# Altium integrated library Xilinx Virtex-6 FPGA.IntLib: 462 symbols (part 3 of 4)
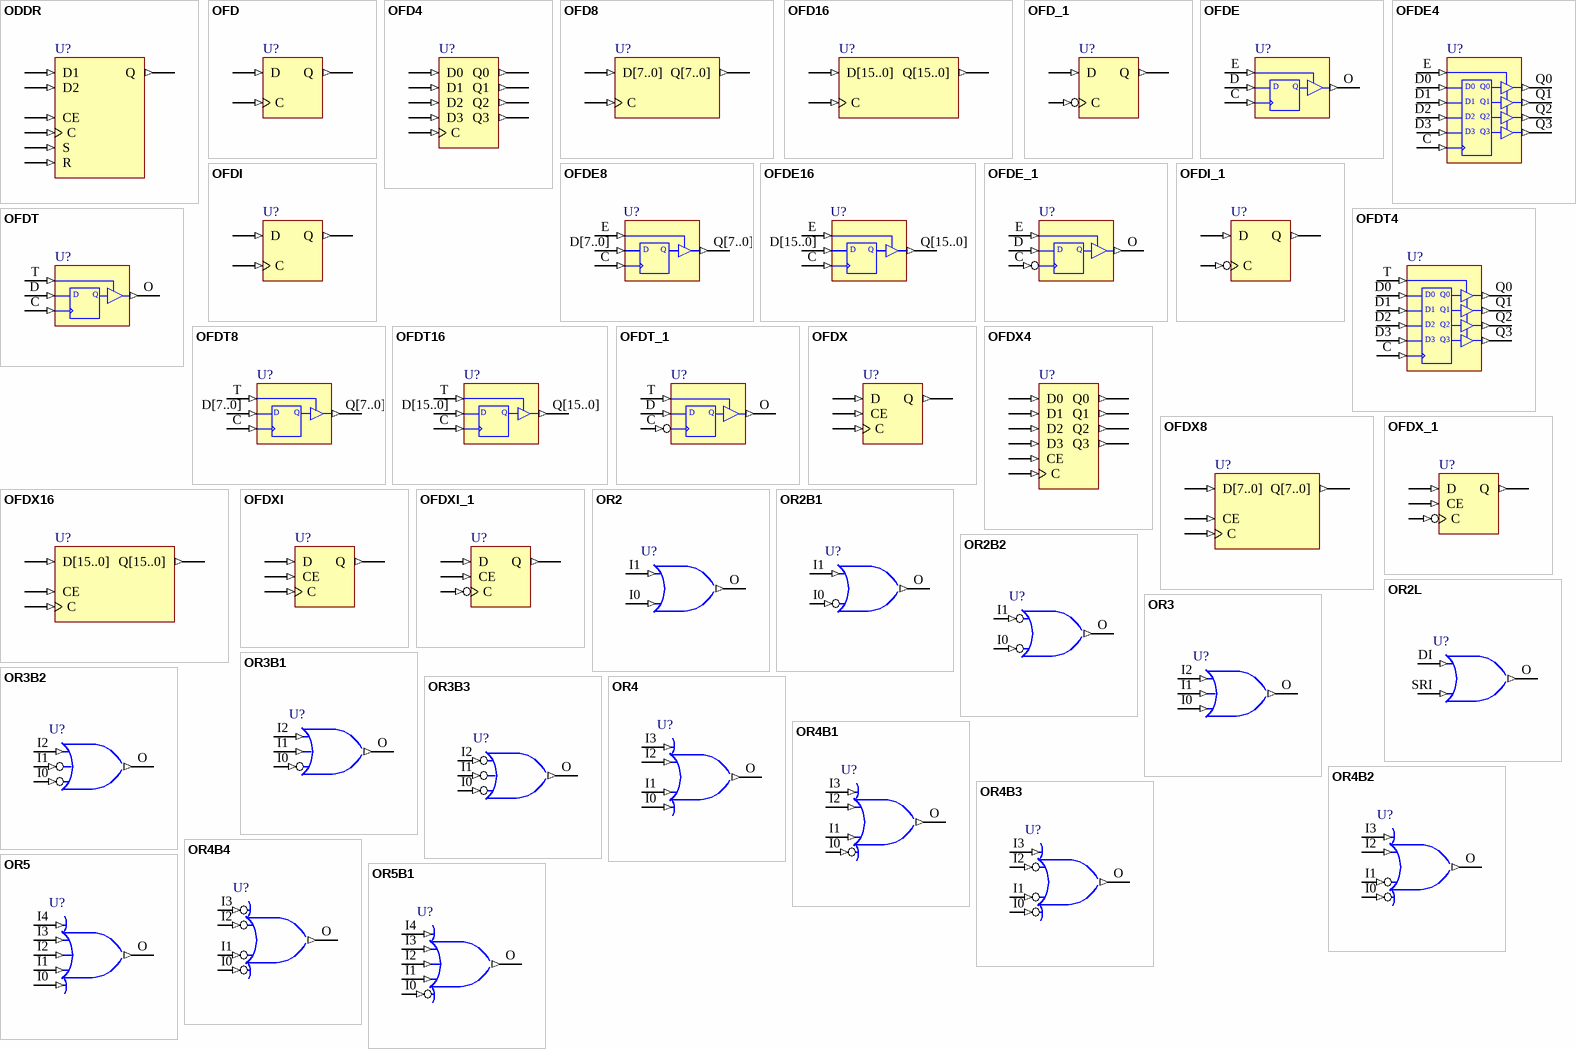
[diagram p15: symbols ODDR to OR5B1]

## ODDR
designator U?
FPGAVendor: Xilinx; FirstPublished: 9-Jan-2010; Publisher: Altium Limited; HelpURL: http://www.xilinx.com/support/documentation/sw_manuals/xilinx11/virtex6_scm.pdf
pins: C (in), CE (in), D1 (in), D2 (in), Q (out), R (in), S (in)

## OFD
designator U?
Single-Output D Flip-Flop; FPGAVendor: Xilinx; FirstPublished: 17-Dec-2009; Publisher: Altium Limited; HelpURL: http://www.xilinx.com/support/documentation/sw_manuals/xilinx11/virtex6_scm.pdf
pins: C (in), D (in), Q (out)

## OFD4
designator U?
Multiple-Output D Flip-Flop; FPGAVendor: Xilinx; FirstPublished: 17-Dec-2009; Publisher: Altium Limited; HelpURL: http://www.xilinx.com/support/documentation/sw_manuals/xilinx11/virtex6_scm.pdf
pins: C (in), D0 (in), D1 (in), D2 (in), D3 (in), Q0 (out), Q1 (out), Q2 (out), Q3 (out)

## OFD8
designator U?
Multiple-Output D Flip-Flop; FPGAVendor: Xilinx; FirstPublished: 17-Dec-2009; Publisher: Altium Limited; HelpURL: http://www.xilinx.com/support/documentation/sw_manuals/xilinx11/virtex6_scm.pdf
pins: C (in), D[7..0] (in), Q[7..0] (out)

## OFD16
designator U?
Multiple-Output D Flip-Flop; FPGAVendor: Xilinx; FirstPublished: 17-Dec-2009; Publisher: Altium Limited; HelpURL: http://www.xilinx.com/support/documentation/sw_manuals/xilinx11/virtex6_scm.pdf
pins: C (in), D[15..0] (in), Q[15..0] (out)

## OFD_1
designator U?
Output D Flip-Flop with Inverted Clock; FPGAVendor: Xilinx; FirstPublished: 17-Dec-2009; Publisher: Altium Limited; HelpURL: http://www.xilinx.com/support/documentation/sw_manuals/xilinx11/virtex6_scm.pdf
pins: C (in), D (in), Q (out)

## OFDE
designator U?
D Flip-Flop with Active-High Enable Output Buffer; FPGAVendor: Xilinx; FirstPublished: 17-Dec-2009; Publisher: Altium Limited; HelpURL: http://www.xilinx.com/support/documentation/sw_manuals/xilinx11/virtex6_scm.pdf
pins: C (in), D (in), E (in), O (out)
text: Q

## OFDE4
designator U?
D Flip-Flops with Active-High Enable Output Buffers; FPGAVendor: Xilinx; FirstPublished: 17-Dec-2009; Publisher: Altium Limited; HelpURL: http://www.xilinx.com/support/documentation/sw_manuals/xilinx11/virtex6_scm.pdf
pins: C (in), D0 (in), D1 (in), D2 (in), D3 (in), E (in), Q0 (out), Q1 (out), Q2 (out), Q3 (out)

## OFDE8
designator U?
D Flip-Flops with Active-High Enable Output Buffers; FPGAVendor: Xilinx; FirstPublished: 17-Dec-2009; Publisher: Altium Limited; HelpURL: http://www.xilinx.com/support/documentation/sw_manuals/xilinx11/virtex6_scm.pdf
pins: C (in), D[7..0] (in), E (in), Q[7..0] (out)
text: D; Q

## OFDE16
designator U?
D Flip-Flops with Active-High Enable Output Buffers; FPGAVendor: Xilinx; FirstPublished: 17-Dec-2009; Publisher: Altium Limited; HelpURL: http://www.xilinx.com/support/documentation/sw_manuals/xilinx11/virtex6_scm.pdf
pins: C (in), D[15..0] (in), E (in), Q[15..0] (out)
text: D; Q

## OFDE_1
designator U?
D Flip-Flop with Active-High Enable Output Buffer and Inverted Clock; FPGAVendor: Xilinx; FirstPublished: 17-Dec-2009; Publisher: Altium Limited; HelpURL: http://www.xilinx.com/support/documentation/sw_manuals/xilinx11/virtex6_scm.pdf
pins: C (in), D (in), E (in), O (out)
text: Q

## OFDI
designator U?
Output D Flip-Flop (Asynchronous Preset); FPGAVendor: Xilinx; FirstPublished: 17-Dec-2009; Publisher: Altium Limited; HelpURL: http://www.xilinx.com/support/documentation/sw_manuals/xilinx11/virtex6_scm.pdf
pins: C (in), D (in), Q (out)

## OFDI_1
designator U?
Output D Flip-Flop with Inverted Clock (Asynchronous Preset); FPGAVendor: Xilinx; FirstPublished: 17-Dec-2009; Publisher: Altium Limited; HelpURL: http://www.xilinx.com/support/documentation/sw_manuals/xilinx11/virtex6_scm.pdf
pins: C (in), D (in), Q (out)

## OFDT
designator U?
Single D Flip-Flop with Active-Low 3-State Output Enable Buffer; FPGAVendor: Xilinx; FirstPublished: 17-Dec-2009; Publisher: Altium Limited; HelpURL: http://www.xilinx.com/support/documentation/sw_manuals/xilinx11/virtex6_scm.pdf
pins: C (in), D (in), O (out), T (in)
text: Q

## OFDT4
designator U?
Multiple D Flip-Flops with Active-Low 3-State Output Enable Buffers; FPGAVendor: Xilinx; FirstPublished: 17-Dec-2009; Publisher: Altium Limited; HelpURL: http://www.xilinx.com/support/documentation/sw_manuals/xilinx11/virtex6_scm.pdf
pins: C (in), D0 (in), D1 (in), D2 (in), D3 (in), Q0 (out), Q1 (out), Q2 (out), Q3 (out), T (in)

## OFDT8
designator U?
Multiple D Flip-Flops with Active-Low 3-State Output Enable Buffers; FPGAVendor: Xilinx; FirstPublished: 17-Dec-2009; Publisher: Altium Limited; HelpURL: http://www.xilinx.com/support/documentation/sw_manuals/xilinx11/virtex6_scm.pdf
pins: C (in), D[7..0] (in), Q[7..0] (out), T (in)
text: D; Q

## OFDT16
designator U?
Multiple D Flip-Flops with Active-Low 3-State Output Enable Buffers; FPGAVendor: Xilinx; FirstPublished: 17-Dec-2009; Publisher: Altium Limited; HelpURL: http://www.xilinx.com/support/documentation/sw_manuals/xilinx11/virtex6_scm.pdf
pins: C (in), D[15..0] (in), Q[15..0] (out), T (in)
text: D; Q

## OFDT_1
designator U?
D Flip-Flop with Active-Low 3-State Output Buffer and Inverted Clock; FPGAVendor: Xilinx; FirstPublished: 17-Dec-2009; Publisher: Altium Limited; HelpURL: http://www.xilinx.com/support/documentation/sw_manuals/xilinx11/virtex6_scm.pdf
pins: C (in), D (in), O (out), T (in)
text: Q

## OFDX
designator U?
Single-Output D Flip-Flop with Clock Enable; FPGAVendor: Xilinx; FirstPublished: 17-Dec-2009; Publisher: Altium Limited; HelpURL: http://www.xilinx.com/support/documentation/sw_manuals/xilinx11/virtex6_scm.pdf
pins: C (in), CE (in), D (in), Q (out)

## OFDX4
designator U?
Multiple-Output D Flip-Flops with Clock Enable; FPGAVendor: Xilinx; FirstPublished: 17-Dec-2009; Publisher: Altium Limited; HelpURL: http://www.xilinx.com/support/documentation/sw_manuals/xilinx11/virtex6_scm.pdf
pins: C (in), CE (in), D0 (in), D1 (in), D2 (in), D3 (in), Q0 (out), Q1 (out), Q2 (out), Q3 (out)

## OFDX8
designator U?
Multiple-Output D Flip-Flops with Clock Enable; FPGAVendor: Xilinx; FirstPublished: 17-Dec-2009; Publisher: Altium Limited; HelpURL: http://www.xilinx.com/support/documentation/sw_manuals/xilinx11/virtex6_scm.pdf
pins: C (in), CE (in), D[7..0] (in), Q[7..0] (out)

## OFDX16
designator U?
Multiple-Output D Flip-Flops with Clock Enable; FPGAVendor: Xilinx; FirstPublished: 17-Dec-2009; Publisher: Altium Limited; HelpURL: http://www.xilinx.com/support/documentation/sw_manuals/xilinx11/virtex6_scm.pdf
pins: C (in), CE (in), D[15..0] (in), Q[15..0] (out)

## OFDX_1
designator U?
Output D Flip-Flop with Inverted Clock and Clock Enable; FPGAVendor: Xilinx; FirstPublished: 17-Dec-2009; Publisher: Altium Limited; HelpURL: http://www.xilinx.com/support/documentation/sw_manuals/xilinx11/virtex6_scm.pdf
pins: C (in), CE (in), D (in), Q (out)

## OFDXI
designator U?
Output D Flip-Flop with Clock Enable (Asynchronous Preset); FPGAVendor: Xilinx; FirstPublished: 17-Dec-2009; Publisher: Altium Limited; HelpURL: http://www.xilinx.com/support/documentation/sw_manuals/xilinx11/virtex6_scm.pdf
pins: C (in), CE (in), D (in), Q (out)

## OFDXI_1
designator U?
Output D Flip-Flop with Inverted Clock and Clock Enable (Asynchronous Preset); FPGAVendor: Xilinx; FirstPublished: 17-Dec-2009; Publisher: Altium Limited; HelpURL: http://www.xilinx.com/support/documentation/sw_manuals/xilinx11/virtex6_scm.pdf
pins: C (in), CE (in), D (in), Q (out)

## OR2
designator U?
2-Input OR Gate; FPGAVendor: Xilinx; FirstPublished: 17-Dec-2009; Publisher: Altium Limited; HelpURL: http://www.xilinx.com/support/documentation/sw_manuals/xilinx11/virtex6_scm.pdf
pins: I0 (in), I1 (in), O (out)

## OR2B1
designator U?
2-Input OR Gate with One Inverted Input; FPGAVendor: Xilinx; FirstPublished: 17-Dec-2009; Publisher: Altium Limited; HelpURL: http://www.xilinx.com/support/documentation/sw_manuals/xilinx11/virtex6_scm.pdf
pins: I0 (in), I1 (in), O (out)

## OR2B2
designator U?
2-Input OR Gate with Two Inverted Inputs; FPGAVendor: Xilinx; FirstPublished: 17-Dec-2009; Publisher: Altium Limited; HelpURL: http://www.xilinx.com/support/documentation/sw_manuals/xilinx11/virtex6_scm.pdf
pins: I0 (in), I1 (in), O (out)

## OR2L
designator U?
Two input OR gate implemented in place of a Slice Latch; FPGAVendor: Xilinx; FirstPublished: 17-Dec-2009; Publisher: Altium Limited; HelpURL: http://www.xilinx.com/support/documentation/sw_manuals/xilinx11/virtex6_scm.pdf
pins: DI (in), O (out), SRI (in)

## OR3
designator U?
3-Input OR Gate; FPGAVendor: Xilinx; FirstPublished: 17-Dec-2009; Publisher: Altium Limited; HelpURL: http://www.xilinx.com/support/documentation/sw_manuals/xilinx11/virtex6_scm.pdf
pins: I0 (in), I1 (in), I2 (in), O (out)

## OR3B1
designator U?
3-Input OR Gate with One Inverted Input; FPGAVendor: Xilinx; FirstPublished: 17-Dec-2009; Publisher: Altium Limited; HelpURL: http://www.xilinx.com/support/documentation/sw_manuals/xilinx11/virtex6_scm.pdf
pins: I0 (in), I1 (in), I2 (in), O (out)

## OR3B2
designator U?
3-Input OR Gate with Two Inverted Inputs; FPGAVendor: Xilinx; FirstPublished: 17-Dec-2009; Publisher: Altium Limited; HelpURL: http://www.xilinx.com/support/documentation/sw_manuals/xilinx11/virtex6_scm.pdf
pins: I0 (in), I1 (in), I2 (in), O (out)

## OR3B3
designator U?
3-Input OR Gate with Three Inverted Inputs; FPGAVendor: Xilinx; FirstPublished: 17-Dec-2009; Publisher: Altium Limited; HelpURL: http://www.xilinx.com/support/documentation/sw_manuals/xilinx11/virtex6_scm.pdf
pins: I0 (in), I1 (in), I2 (in), O (out)

## OR4
designator U?
4-Input OR Gate; FPGAVendor: Xilinx; FirstPublished: 17-Dec-2009; Publisher: Altium Limited; HelpURL: http://www.xilinx.com/support/documentation/sw_manuals/xilinx11/virtex6_scm.pdf
pins: I0 (in), I1 (in), I2 (in), I3 (in), O (out)

## OR4B1
designator U?
4-Input OR Gate with One Inverted Input; FPGAVendor: Xilinx; FirstPublished: 17-Dec-2009; Publisher: Altium Limited; HelpURL: http://www.xilinx.com/support/documentation/sw_manuals/xilinx11/virtex6_scm.pdf
pins: I0 (in), I1 (in), I2 (in), I3 (in), O (out)

## OR4B2
designator U?
4-Input OR Gate with Two Inverted Inputs; FPGAVendor: Xilinx; FirstPublished: 17-Dec-2009; Publisher: Altium Limited; HelpURL: http://www.xilinx.com/support/documentation/sw_manuals/xilinx11/virtex6_scm.pdf
pins: I0 (in), I1 (in), I2 (in), I3 (in), O (out)

## OR4B3
designator U?
4-Input OR Gate with Three Inverted Inputs; FPGAVendor: Xilinx; FirstPublished: 17-Dec-2009; Publisher: Altium Limited; HelpURL: http://www.xilinx.com/support/documentation/sw_manuals/xilinx11/virtex6_scm.pdf
pins: I0 (in), I1 (in), I2 (in), I3 (in), O (out)

## OR4B4
designator U?
4-Input OR Gate with Four Inverted Inputs; FPGAVendor: Xilinx; FirstPublished: 17-Dec-2009; Publisher: Altium Limited; HelpURL: http://www.xilinx.com/support/documentation/sw_manuals/xilinx11/virtex6_scm.pdf
pins: I0 (in), I1 (in), I2 (in), I3 (in), O (out)

## OR5
designator U?
5-Input OR Gate; FPGAVendor: Xilinx; FirstPublished: 17-Dec-2009; Publisher: Altium Limited; HelpURL: http://www.xilinx.com/support/documentation/sw_manuals/xilinx11/virtex6_scm.pdf
pins: I0 (in), I1 (in), I2 (in), I3 (in), I4 (in), O (out)

## OR5B1
designator U?
5-Input OR Gate with One Inverted Input; FPGAVendor: Xilinx; FirstPublished: 17-Dec-2009; Publisher: Altium Limited; HelpURL: http://www.xilinx.com/support/documentation/sw_manuals/xilinx11/virtex6_scm.pdf
pins: I0 (in), I1 (in), I2 (in), I3 (in), I4 (in), O (out)

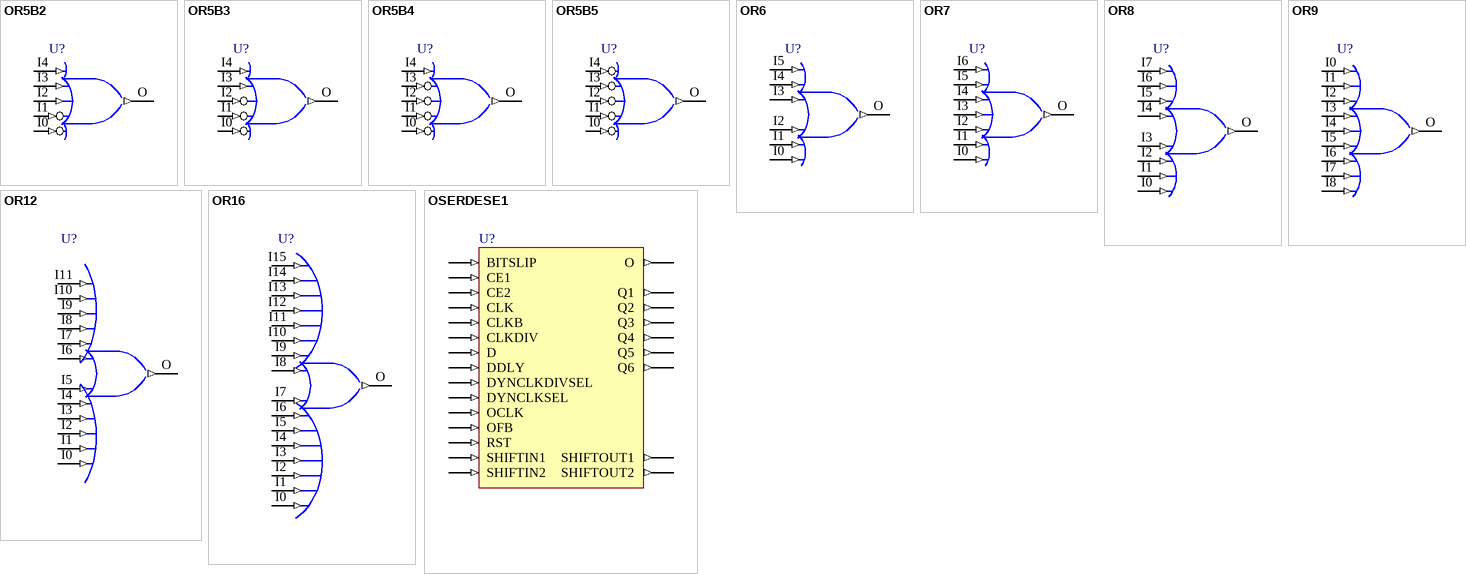
[diagram p9: symbols OR5B2 to OSERDESE1]

## OR5B2
designator U?
5-Input OR Gate with Two Inverted Inputs; FPGAVendor: Xilinx; FirstPublished: 17-Dec-2009; Publisher: Altium Limited; HelpURL: http://www.xilinx.com/support/documentation/sw_manuals/xilinx11/virtex6_scm.pdf
pins: I0 (in), I1 (in), I2 (in), I3 (in), I4 (in), O (out)

## OR5B3
designator U?
5-Input OR Gate with Three Inverted Inputs; FPGAVendor: Xilinx; FirstPublished: 17-Dec-2009; Publisher: Altium Limited; HelpURL: http://www.xilinx.com/support/documentation/sw_manuals/xilinx11/virtex6_scm.pdf
pins: I0 (in), I1 (in), I2 (in), I3 (in), I4 (in), O (out)

## OR5B4
designator U?
5-Input OR Gate with Four Inverted Inputs; FPGAVendor: Xilinx; FirstPublished: 17-Dec-2009; Publisher: Altium Limited; HelpURL: http://www.xilinx.com/support/documentation/sw_manuals/xilinx11/virtex6_scm.pdf
pins: I0 (in), I1 (in), I2 (in), I3 (in), I4 (in), O (out)

## OR5B5
designator U?
5-Input OR Gate with Five Inverted Inputs; FPGAVendor: Xilinx; FirstPublished: 17-Dec-2009; Publisher: Altium Limited; HelpURL: http://www.xilinx.com/support/documentation/sw_manuals/xilinx11/virtex6_scm.pdf
pins: I0 (in), I1 (in), I2 (in), I3 (in), I4 (in), O (out)

## OR6
designator U?
6-Input OR Gate; FPGAVendor: Xilinx; FirstPublished: 17-Dec-2009; Publisher: Altium Limited; HelpURL: http://www.xilinx.com/support/documentation/sw_manuals/xilinx11/virtex6_scm.pdf
pins: I0 (in), I1 (in), I2 (in), I3 (in), I4 (in), I5 (in), O (out)

## OR7
designator U?
7-Input OR Gate; FPGAVendor: Xilinx; FirstPublished: 17-Dec-2009; Publisher: Altium Limited; HelpURL: http://www.xilinx.com/support/documentation/sw_manuals/xilinx11/virtex6_scm.pdf
pins: I0 (in), I1 (in), I2 (in), I3 (in), I4 (in), I5 (in), I6 (in), O (out)

## OR8
designator U?
8-Input OR Gate; FPGAVendor: Xilinx; FirstPublished: 17-Dec-2009; Publisher: Altium Limited; HelpURL: http://www.xilinx.com/support/documentation/sw_manuals/xilinx11/virtex6_scm.pdf
pins: I0 (in), I1 (in), I2 (in), I3 (in), I4 (in), I5 (in), I6 (in), I7 (in), O (out)

## OR9
designator U?
9-Input OR Gate; FPGAVendor: Xilinx; FirstPublished: 17-Dec-2009; Publisher: Altium Limited; HelpURL: http://www.xilinx.com/support/documentation/sw_manuals/xilinx11/virtex6_scm.pdf
pins: I0 (in), I1 (in), I2 (in), I3 (in), I4 (in), I5 (in), I6 (in), I7 (in), I8 (in), O (out)

## OR12
designator U?
12-Input OR Gate; FPGAVendor: Xilinx; FirstPublished: 17-Dec-2009; Publisher: Altium Limited; HelpURL: http://www.xilinx.com/support/documentation/sw_manuals/xilinx11/virtex6_scm.pdf
pins: I0 (in), I1 (in), I2 (in), I3 (in), I4 (in), I5 (in), I6 (in), I7 (in), I8 (in), I9 (in), I10 (in), I11 (in), O (out)

## OR16
designator U?
16-Input OR Gate; FPGAVendor: Xilinx; FirstPublished: 17-Dec-2009; Publisher: Altium Limited; HelpURL: http://www.xilinx.com/support/documentation/sw_manuals/xilinx11/virtex6_scm.pdf
pins: I0 (in), I1 (in), I2 (in), I3 (in), I4 (in), I5 (in), I6 (in), I7 (in), I8 (in), I9 (in), I10 (in), I11 (in), I12 (in), I13 (in), I14 (in), I15 (in), O (out)

## OSERDESE1
designator U?
FPGAVendor: Xilinx; FirstPublished: 9-Jan-2010; Publisher: Altium Limited; HelpURL: http://www.xilinx.com/support/documentation/sw_manuals/xilinx11/virtex6_scm.pdf
pins: BITSLIP (in), CE1 (in), CE2 (in), CLK (in), CLKB (in), CLKDIV (in), D (in), DDLY (in), DYNCLKDIVSEL (in), DYNCLKSEL (in), O (out), OCLK (in), OFB (in), Q1 (out), Q2 (out), Q3 (out), Q4 (out), Q5 (out), Q6 (out), RST (in), SHIFTIN1 (in), SHIFTIN2 (in), SHIFTOUT1 (out), SHIFTOUT2 (out)

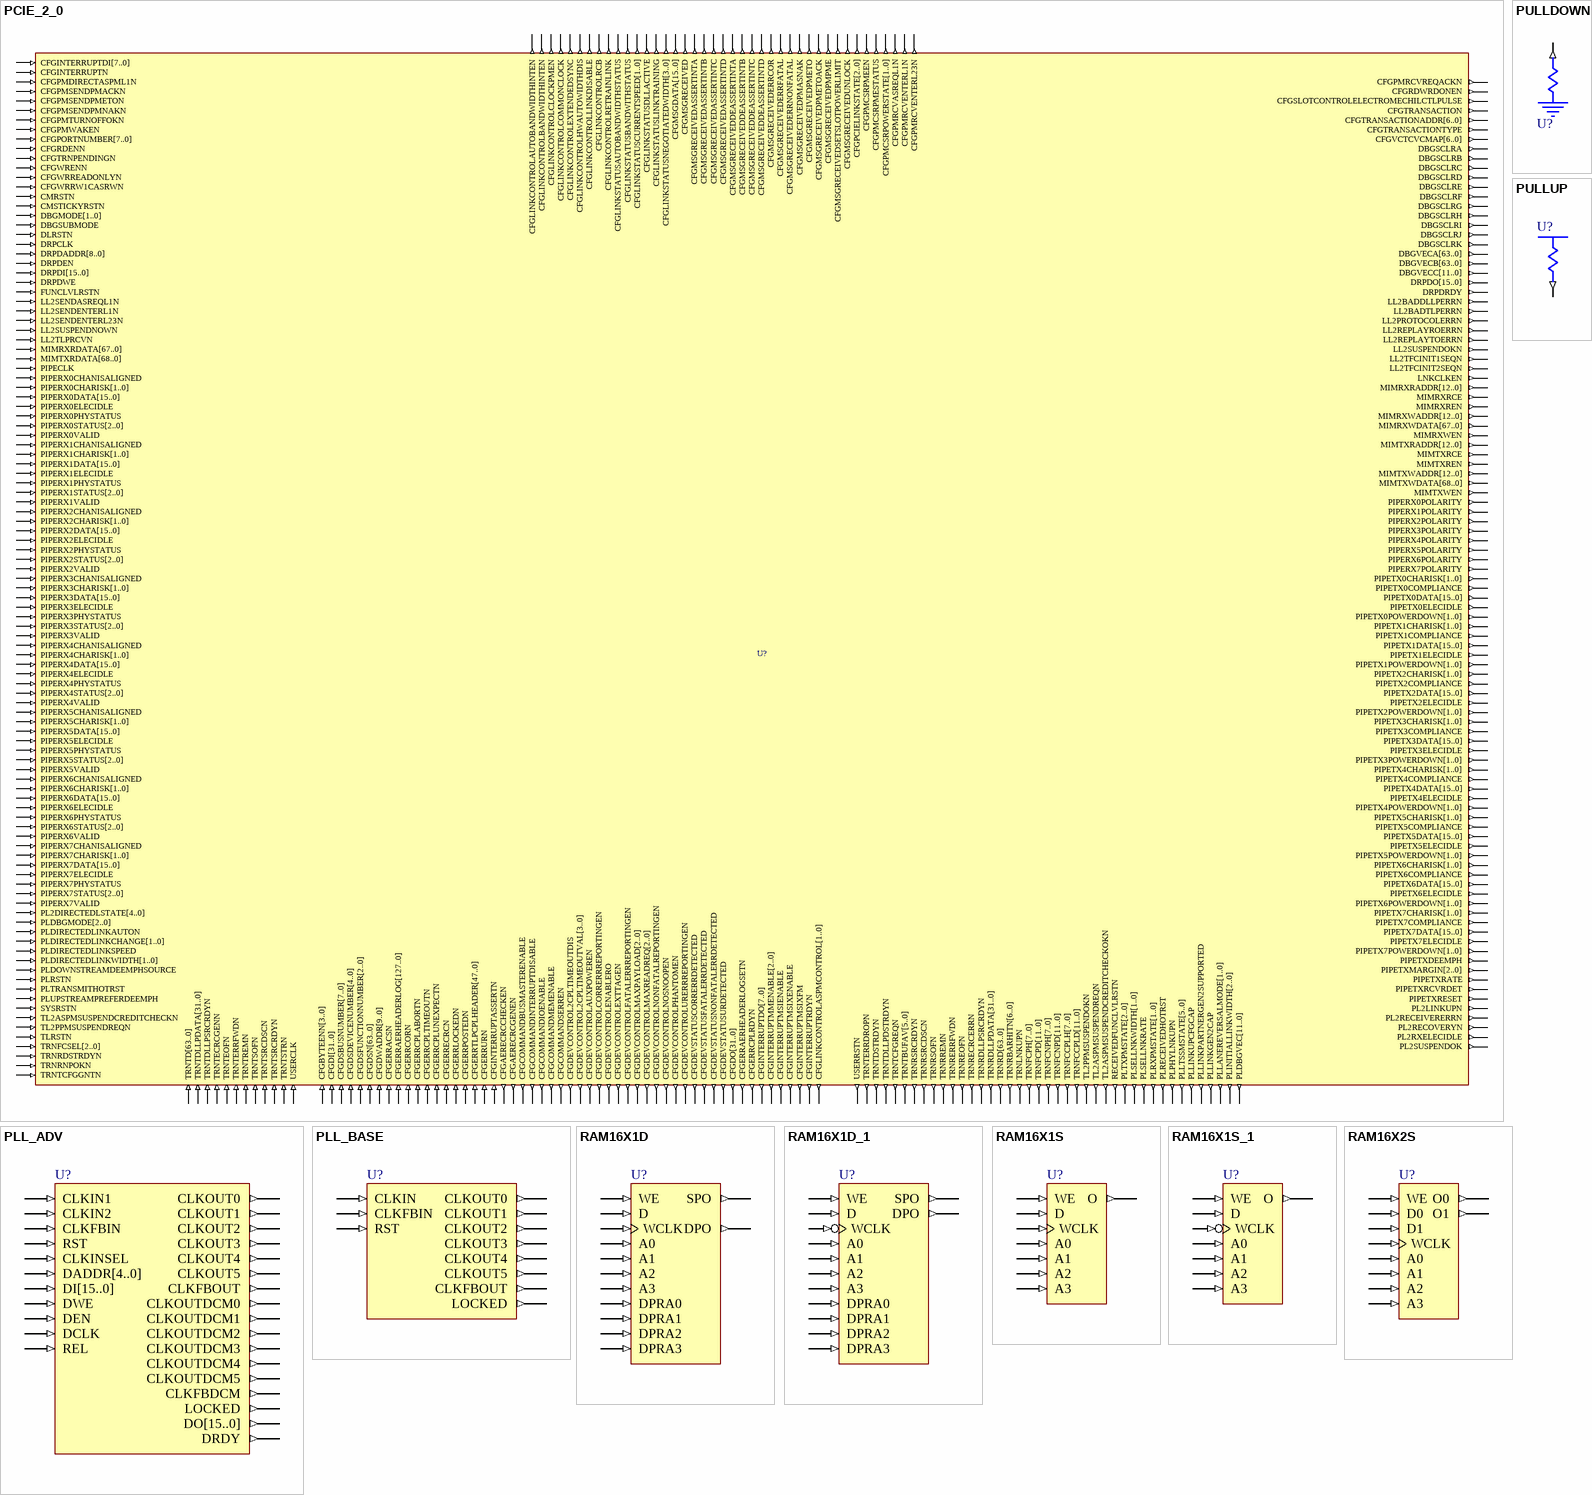
[diagram p10: symbols PCIE_2_0 to RAM16X2S]

## PCIE_2_0
designator U?
FPGAVendor: Xilinx; FirstPublished: 9-Jan-2010; Publisher: Altium Limited; HelpURL: http://www.xilinx.com/support/documentation/sw_manuals/xilinx11/virtex6_scm.pdf
pins: CFGAERECRCCHECKEN (out), CFGAERECRCGENEN (out), CFGBYTEENN[3..0] (in), CFGCOMMANDBUSMASTERENABLE (out), CFGCOMMANDINTERRUPTDISABLE (out), CFGCOMMANDIOENABLE (out), CFGCOMMANDMEMENABLE (out), CFGCOMMANDSERREN (out), CFGDEVCONTROL2CPLTIMEOUTDIS (out), CFGDEVCONTROL2CPLTIMEOUTVAL[3..0] (out), CFGDEVCONTROLAUXPOWEREN (out), CFGDEVCONTROLCORRERRREPORTINGEN (out), CFGDEVCONTROLENABLERO (out), CFGDEVCONTROLEXTTAGEN (out), CFGDEVCONTROLFATALERRREPORTINGEN (out), CFGDEVCONTROLMAXPAYLOAD[2..0] (out), CFGDEVCONTROLMAXREADREQ[2..0] (out), CFGDEVCONTROLNONFATALREPORTINGEN (out), CFGDEVCONTROLNOSNOOPEN (out), CFGDEVCONTROLPHANTOMEN (out), CFGDEVCONTROLURERRREPORTINGEN (out), CFGDEVSTATUSCORRERRDETECTED (out), CFGDEVSTATUSFATALERRDETECTED (out), CFGDEVSTATUSNONFATALERRDETECTED (out), CFGDEVSTATUSURDETECTED (out), CFGDI[31..0] (in), CFGDO[31..0] (out), CFGDSBUSNUMBER[7..0] (in), CFGDSDEVICENUMBER[4..0] (in), CFGDSFUNCTIONNUMBER[2..0] (in), CFGDSN[63..0] (in), CFGDWADDR[9..0] (in), CFGERRACSN (in), CFGERRAERHEADERLOG[127..0] (in), CFGERRAERHEADERLOGSETN (out), CFGERRCORN (in), CFGERRCPLABORTN (in), CFGERRCPLRDYN (out), CFGERRCPLTIMEOUTN (in), CFGERRCPLUNEXPECTN (in), CFGERRECRCN (in), CFGERRLOCKEDN (in), CFGERRPOSTEDN (in), CFGERRTLPCPLHEADER[47..0] (in), CFGERRURN (in), CFGINTERRUPTASSERTN (in), CFGINTERRUPTDI[7..0] (in), CFGINTERRUPTDO[7..0] (out), CFGINTERRUPTMMENABLE[2..0] (out), CFGINTERRUPTMSIENABLE (out), CFGINTERRUPTMSIXENABLE (out), CFGINTERRUPTMSIXFM (out), CFGINTERRUPTN (in), CFGINTERRUPTRDYN (out), CFGLINKCONTROLASPMCONTROL[1..0] (out), CFGLINKCONTROLAUTOBANDWIDTHINTEN (out), CFGLINKCONTROLBANDWIDTHINTEN (out), CFGLINKCONTROLCLOCKPMEN (out), CFGLINKCONTROLCOMMONCLOCK (out), CFGLINKCONTROLEXTENDEDSYNC (out), CFGLINKCONTROLHWAUTOWIDTHDIS (out), CFGLINKCONTROLLINKDISABLE (out), CFGLINKCONTROLRCB (out), CFGLINKCONTROLRETRAINLINK (out), CFGLINKSTATUSAUTOBANDWIDTHSTATUS (out), CFGLINKSTATUSBANDWITHSTATUS (out), CFGLINKSTATUSCURRENTSPEED[1..0] (out), CFGLINKSTATUSDLLACTIVE (out), CFGLINKSTATUSLINKTRAINING (out), CFGLINKSTATUSNEGOTIATEDWIDTH[3..0] (out), CFGMSGDATA[15..0] (out), CFGMSGRECEIVED (out), CFGMSGRECEIVEDASSERTINTA (out), CFGMSGRECEIVEDASSERTINTB (out), CFGMSGRECEIVEDASSERTINTC (out), CFGMSGRECEIVEDASSERTINTD (out), CFGMSGRECEIVEDDEASSERTINTA (out), CFGMSGRECEIVEDDEASSERTINTB (out), CFGMSGRECEIVEDDEASSERTINTC (out), CFGMSGRECEIVEDDEASSERTINTD (out), CFGMSGRECEIVEDERRCOR (out), CFGMSGRECEIVEDERRFATAL (out), CFGMSGRECEIVEDERRNONFATAL (out), CFGMSGRECEIVEDPMASNAK (out), CFGMSGRECEIVEDPMETO (out), CFGMSGRECEIVEDPMETOACK (out), CFGMSGRECEIVEDPMPME (out), CFGMSGRECEIVEDSETSLOTPOWERLIMIT (out), CFGMSGRECEIVEDUNLOCK (out), CFGPCIELINKSTATE[2..0] (out), CFGPMCSRPMEEN (out), CFGPMCSRPMESTATUS (out), CFGPMCSRPOWERSTATE[1..0] (out), CFGPMDIRECTASPML1N (in), CFGPMRCVASREQL1N (out), CFGPMRCVENTERL1N (out), CFGPMRCVENTERL23N (out), CFGPMRCVREQACKN (out), CFGPMSENDPMACKN (in), CFGPMSENDPMETON (in), CFGPMSENDPMNAKN (in), CFGPMTURNOFFOKN (in), CFGPMWAKEN (in), CFGPORTNUMBER[7..0] (in), CFGRDENN (in), CFGRDWRDONEN (out), CFGSLOTCONTROLELECTROMECHILCTLPULSE (out), CFGTRANSACTION (out), CFGTRANSACTIONADDR[6..0] (out), CFGTRANSACTIONTYPE (out), CFGTRNPENDINGN (in), CFGVCTCVCMAP[6..0] (out), CFGWRENN (in), CFGWRREADONLYN (in), CFGWRRW1CASRWN (in), CMRSTN (in), CMSTICKYRSTN (in), DBGMODE[1..0] (in), DBGSCLRA (out), DBGSCLRB (out), DBGSCLRC (out), DBGSCLRD (out), DBGSCLRE (out), DBGSCLRF (out), DBGSCLRG (out), DBGSCLRH (out), DBGSCLRI (out), DBGSCLRJ (out), DBGSCLRK (out), DBGSUBMODE (in), DBGVECA[63..0] (out), DBGVECB[63..0] (out), DBGVECC[11..0] (out), DLRSTN (in), DRPCLK (in), DRPDADDR[8..0] (in), DRPDEN (in), DRPDI[15..0] (in), DRPDO[15..0] (out), DRPDRDY (out), DRPDWE (in), FUNCLVLRSTN (in), LL2BADDLLPERRN (out), LL2BADTLPERRN (out), LL2PROTOCOLERRN (out), LL2REPLAYROERRN (out), LL2REPLAYTOERRN (out), LL2SENDASREQL1N (in), LL2SENDENTERL1N (in), LL2SENDENTERL23N (in), LL2SUSPENDNOWN (in), LL2SUSPENDOKN (out), LL2TFCINIT1SEQN (out), LL2TFCINIT2SEQN (out), LL2TLPRCVN (in), LNKCLKEN (out), MIMRXRADDR[12..0] (out), MIMRXRCE (out), MIMRXRDATA[67..0] (in), MIMRXREN (out), MIMRXWADDR[12..0] (out), MIMRXWDATA[67..0] (out), MIMRXWEN (out), MIMTXRADDR[12..0] (out), MIMTXRCE (out), MIMTXRDATA[68..0] (in), MIMTXREN (out), MIMTXWADDR[12..0] (out), MIMTXWDATA[68..0] (out), MIMTXWEN (out), PIPECLK (in), PIPERX0CHANISALIGNED (in), PIPERX0CHARISK[1..0] (in), PIPERX0DATA[15..0] (in), PIPERX0ELECIDLE (in), PIPERX0PHYSTATUS (in), PIPERX0POLARITY (out), PIPERX0STATUS[2..0] (in), PIPERX0VALID (in), PIPERX1CHANISALIGNED (in), PIPERX1CHARISK[1..0] (in), PIPERX1DATA[15..0] (in), PIPERX1ELECIDLE (in), PIPERX1PHYSTATUS (in), PIPERX1POLARITY (out), PIPERX1STATUS[2..0] (in), PIPERX1VALID (in), PIPERX2CHANISALIGNED (in), PIPERX2CHARISK[1..0] (in), PIPERX2DATA[15..0] (in), PIPERX2ELECIDLE (in), PIPERX2PHYSTATUS (in), PIPERX2POLARITY (out), PIPERX2STATUS[2..0] (in), PIPERX2VALID (in), PIPERX3CHANISALIGNED (in), PIPERX3CHARISK[1..0] (in), PIPERX3DATA[15..0] (in), PIPERX3ELECIDLE (in), PIPERX3PHYSTATUS (in), PIPERX3POLARITY (out), PIPERX3STATUS[2..0] (in), PIPERX3VALID (in), PIPERX4CHANISALIGNED (in), PIPERX4CHARISK[1..0] (in), PIPERX4DATA[15..0] (in), PIPERX4ELECIDLE (in), PIPERX4PHYSTATUS (in), PIPERX4POLARITY (out), PIPERX4STATUS[2..0] (in), PIPERX4VALID (in), PIPERX5CHANISALIGNED (in), PIPERX5CHARISK[1..0] (in), PIPERX5DATA[15..0] (in), PIPERX5ELECIDLE (in), PIPERX5PHYSTATUS (in), PIPERX5POLARITY (out), PIPERX5STATUS[2..0] (in), PIPERX5VALID (in), PIPERX6CHANISALIGNED (in), PIPERX6CHARISK[1..0] (in), PIPERX6DATA[15..0] (in), PIPERX6ELECIDLE (in), PIPERX6PHYSTATUS (in), PIPERX6POLARITY (out), PIPERX6STATUS[2..0] (in), PIPERX6VALID (in), PIPERX7CHANISALIGNED (in), PIPERX7CHARISK[1..0] (in), PIPERX7DATA[15..0] (in), PIPERX7ELECIDLE (in), PIPERX7PHYSTATUS (in), PIPERX7POLARITY (out), PIPERX7STATUS[2..0] (in), PIPERX7VALID (in), PIPETX0CHARISK[1..0] (out), PIPETX0COMPLIANCE (out), PIPETX0DATA[15..0] (out), PIPETX0ELECIDLE (out), PIPETX0POWERDOWN[1..0] (out), PIPETX1CHARISK[1..0] (out), PIPETX1COMPLIANCE (out), PIPETX1DATA[15..0] (out), PIPETX1ELECIDLE (out), PIPETX1POWERDOWN[1..0] (out), PIPETX2CHARISK[1..0] (out), PIPETX2COMPLIANCE (out), PIPETX2DATA[15..0] (out), PIPETX2ELECIDLE (out), PIPETX2POWERDOWN[1..0] (out), PIPETX3CHARISK[1..0] (out), PIPETX3COMPLIANCE (out), PIPETX3DATA[15..0] (out), PIPETX3ELECIDLE (out), PIPETX3POWERDOWN[1..0] (out), PIPETX4CHARISK[1..0] (out), PIPETX4COMPLIANCE (out), PIPETX4DATA[15..0] (out), PIPETX4ELECIDLE (out), PIPETX4POWERDOWN[1..0] (out), PIPETX5CHARISK[1..0] (out), PIPETX5COMPLIANCE (out), PIPETX5DATA[15..0] (out), PIPETX5ELECIDLE (out), PIPETX5POWERDOWN[1..0] (out), PIPETX6CHARISK[1..0] (out), PIPETX6COMPLIANCE (out), PIPETX6DATA[15..0] (out), PIPETX6ELECIDLE (out), PIPETX6POWERDOWN[1..0] (out), PIPETX7CHARISK[1..0] (out), PIPETX7COMPLIANCE (out), PIPETX7DATA[15..0] (out), PIPETX7ELECIDLE (out), PIPETX7POWERDOWN[1..0] (out), PIPETXDEEMPH (out), PIPETXMARGIN[2..0] (out), PIPETXRATE (out), PIPETXRCVRDET (out), PIPETXRESET (out), PL2DIRECTEDLSTATE[4..0] (in), PL2LINKUPN (out), PL2RECEIVERERRN (out), PL2RECOVERYN (out), PL2RXELECIDLE (out), PL2SUSPENDOK (out), PLDBGMODE[2..0] (in), PLDBGVEC[11..0] (out), PLDIRECTEDLINKAUTON (in), PLDIRECTEDLINKCHANGE[1..0] (in), PLDIRECTEDLINKSPEED (in), PLDIRECTEDLINKWIDTH[1..0] (in), PLDOWNSTREAMDEEMPHSOURCE (in), PLINITIALLINKWIDTH[2..0] (out), PLLANEREVERSALMODE[1..0] (out), PLLINKGEN2CAP (out), PLLINKPARTNERGEN2SUPPORTED (out), PLLINKUPCFGCAP (out), PLLTSSMSTATE[5..0] (out), PLPHYLNKUPN (out), PLRECEIVEDHOTRST (out), PLRSTN (in), PLRXPMSTATE[1..0] (out), PLSELLNKRATE (out), PLSELLNKWIDTH[1..0] (out), PLTRANSMITHOTRST (in), PLTXPMSTATE[2..0] (out), PLUPSTREAMPREFERDEEMPH (in), RECEIVEDFUNCLVLRSTN (out), SYSRSTN (in), TL2ASPMSUSPENDCREDITCHECKN (in), TL2ASPMSUSPENDCREDITCHECKOKN (out), TL2ASPMSUSPENDREQN (out), TL2PPMSUSPENDOKN (out), TL2PPMSUSPENDREQN (in), TLRSTN (in), TRNFCCPLD[11..0] (out), TRNFCCPLH[7..0] (out), TRNFCNPD[11..0] (out), TRNFCNPH[7..0] (out), TRNFCPD[11..0] (out), TRNFCPH[7..0] (out), TRNFCSEL[2..0] (in), TRNLNKUPN (out), TRNRBARHITN[6..0] (out), TRNRD[63..0] (out), TRNRDLLPDATA[31..0] (out), TRNRDLLPSRCRDYN (out), TRNRDSTRDYN (in), TRNRECRCERRN (out), TRNREOFN (out), TRNRERRFWDN (out), TRNRNPOKN (in), TRNRREMN (out), TRNRSOFN (out), TRNRSRCDSCN (out), TRNRSRCRDYN (out), TRNTBUFAV[5..0] (out), TRNTCFGGNTN (in), TRNTCFGREQN (out), TRNTD[63..0] (in), TRNTDLLPDATA[31..0] (in), TRNTDLLPDSTRDYN (out), TRNTDLLPSRCRDYN (in), TRNTDSTRDYN (out), TRNTECRCGENN (in), TRNTEOFN (in), TRNTERRDROPN (out), TRNTERRFWDN (in), TRNTREMN (in), TRNTSOFN (in), TRNTSRCDSCN (in), TRNTSRCRDYN (in), TRNTSTRN (in), USERCLK (in), USERRSTN (out)

## PLL_ADV
designator U?
Advanced Phase Locked Loop Clock Circuit; FPGAVendor: Xilinx; FirstPublished: 17-Dec-2009; Publisher: Altium Limited; HelpURL: http://www.xilinx.com/support/documentation/sw_manuals/xilinx11/virtex6_scm.pdf
pins: CLKFBDCM (out), CLKFBIN (in), CLKFBOUT (out), CLKIN1 (in), CLKIN2 (in), CLKINSEL (in), CLKOUT0 (out), CLKOUT1 (out), CLKOUT2 (out), CLKOUT3 (out), CLKOUT4 (out), CLKOUT5 (out), CLKOUTDCM0 (out), CLKOUTDCM1 (out), CLKOUTDCM2 (out), CLKOUTDCM3 (out), CLKOUTDCM4 (out), CLKOUTDCM5 (out), DADDR[4..0] (in), DCLK (in), DEN (in), DI[15..0] (in), DO[15..0] (out), DRDY (out), DWE (in), LOCKED (out), REL (in), RST (in)

## PLL_BASE
designator U?
Basic Phase Locked Loop Clock Circuit; FPGAVendor: Xilinx; FirstPublished: 17-Dec-2009; Publisher: Altium Limited; HelpURL: http://www.xilinx.com/support/documentation/sw_manuals/xilinx11/virtex6_scm.pdf
pins: CLKFBIN (in), CLKFBOUT (out), CLKIN (in), CLKOUT0 (out), CLKOUT1 (out), CLKOUT2 (out), CLKOUT3 (out), CLKOUT4 (out), CLKOUT5 (out), LOCKED (out), RST (in)

## PULLDOWN
designator U?
Resistor to GND for Input Pads; FPGAVendor: Xilinx; FirstPublished: 17-Dec-2009; Publisher: Altium Limited; HelpURL: http://www.xilinx.com/support/documentation/sw_manuals/xilinx11/virtex6_scm.pdf
pins: O (out)

## PULLUP
designator U?
Resistor to VCC for Input PADs, Open-Drain, and 3-State Outputs; FPGAVendor: Xilinx; FirstPublished: 17-Dec-2009; Publisher: Altium Limited; HelpURL: http://www.xilinx.com/support/documentation/sw_manuals/xilinx11/virtex6_scm.pdf
pins: O (out)

## RAM16X1D
designator U?
16-Deep by 1-Wide Static Dual Port Synchronous RAM; FPGAVendor: Xilinx; FirstPublished: 17-Dec-2009; Publisher: Altium Limited; HelpURL: http://www.xilinx.com/support/documentation/sw_manuals/xilinx11/virtex6_scm.pdf
pins: A0 (in), A1 (in), A2 (in), A3 (in), D (in), DPO (out), DPRA0 (in), DPRA1 (in), DPRA2 (in), DPRA3 (in), SPO (out), WCLK (in), WE (in)

## RAM16X1D_1
designator U?
16-Deep by 1-Wide Static Dual Port Synchronous RAM with Negative-Edge Clock; FPGAVendor: Xilinx; FirstPublished: 17-Dec-2009; Publisher: Altium Limited; HelpURL: http://www.xilinx.com/support/documentation/sw_manuals/xilinx11/virtex6_scm.pdf
pins: A0 (in), A1 (in), A2 (in), A3 (in), D (in), DPO (out), DPRA0 (in), DPRA1 (in), DPRA2 (in), DPRA3 (in), SPO (out), WCLK (in), WE (in)

## RAM16X1S
designator U?
16-Deep by 1-Wide Static Synchronous RAM; FPGAVendor: Xilinx; FirstPublished: 17-Dec-2009; Publisher: Altium Limited; HelpURL: http://www.xilinx.com/support/documentation/sw_manuals/xilinx11/virtex6_scm.pdf
pins: A0 (in), A1 (in), A2 (in), A3 (in), D (in), O (out), WCLK (in), WE (in)

## RAM16X1S_1
designator U?
16-Deep by 1-Wide Static Synchronous RAM with Negative-Edge Clock; FPGAVendor: Xilinx; FirstPublished: 17-Dec-2009; Publisher: Altium Limited; HelpURL: http://www.xilinx.com/support/documentation/sw_manuals/xilinx11/virtex6_scm.pdf
pins: A0 (in), A1 (in), A2 (in), A3 (in), D (in), O (out), WCLK (in), WE (in)

## RAM16X2S
designator U?
16-Deep by 2-Wide Static Synchronous RAM; FPGAVendor: Xilinx; FirstPublished: 17-Dec-2009; Publisher: Altium Limited; HelpURL: http://www.xilinx.com/support/documentation/sw_manuals/xilinx11/virtex6_scm.pdf
pins: A0 (in), A1 (in), A2 (in), A3 (in), D0 (in), D1 (in), O0 (out), O1 (out), WCLK (in), WE (in)

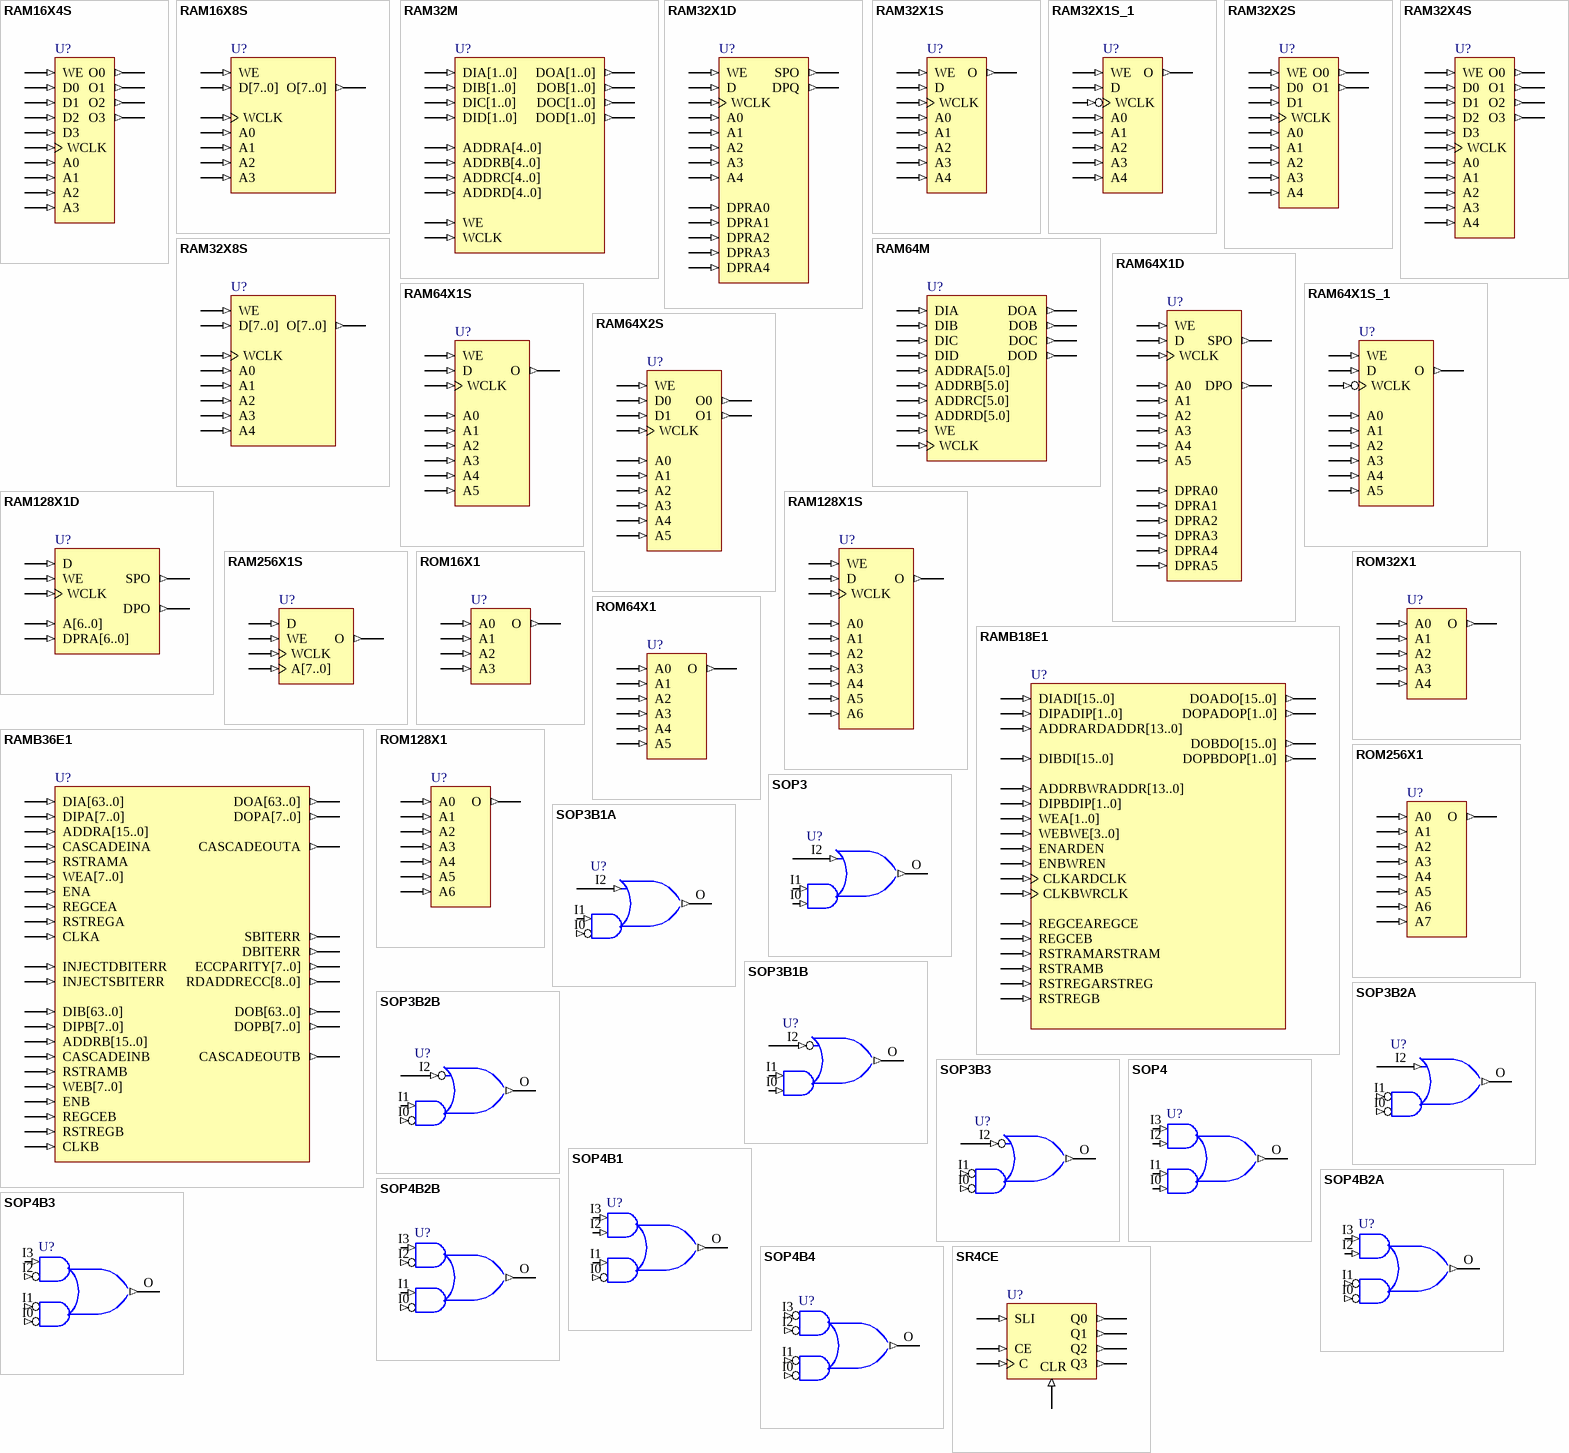
[diagram p11: symbols RAM16X4S to SR4CE]

## RAM16X4S
designator U?
16-Deep by 4-Wide Static Synchronous RAM; FPGAVendor: Xilinx; FirstPublished: 17-Dec-2009; Publisher: Altium Limited; HelpURL: http://www.xilinx.com/support/documentation/sw_manuals/xilinx11/virtex6_scm.pdf
pins: A0 (in), A1 (in), A2 (in), A3 (in), D0 (in), D1 (in), D2 (in), D3 (in), O0 (out), O1 (out), O2 (out), O3 (out), WCLK (in), WE (in)

## RAM16X8S
designator U?
16-Deep by 8-Wide Static Synchronous RAM; FPGAVendor: Xilinx; FirstPublished: 17-Dec-2009; Publisher: Altium Limited; HelpURL: http://www.xilinx.com/support/documentation/sw_manuals/xilinx11/virtex6_scm.pdf
pins: A0 (in), A1 (in), A2 (in), A3 (in), D[7..0] (in), O[7..0] (out), WCLK (in), WE (in)

## RAM32M
designator U?
32-Deep by 8-bit Wide Multi Port Random Access Memory (Select RAM); FPGAVendor: Xilinx; FirstPublished: 17-Dec-2009; Publisher: Altium Limited; HelpURL: http://www.xilinx.com/support/documentation/sw_manuals/xilinx11/virtex6_scm.pdf
pins: ADDRA[4..0] (in), ADDRB[4..0] (in), ADDRC[4..0] (in), ADDRD[4..0] (in), DIA[1..0] (in), DIB[1..0] (in), DIC[1..0] (in), DID[1..0] (in), DOA[1..0] (out), DOB[1..0] (out), DOC[1..0] (out), DOD[1..0] (out), WCLK (in), WE (in)

## RAM32X1D
designator U?
FPGAVendor: Xilinx; FirstPublished: 9-Jan-2010; Publisher: Altium Limited; HelpURL: http://www.xilinx.com/support/documentation/sw_manuals/xilinx11/virtex6_scm.pdf
pins: A0 (in), A1 (in), A2 (in), A3 (in), A4 (in), D (in), DPQ (out), DPRA0 (in), DPRA1 (in), DPRA2 (in), DPRA3 (in), DPRA4 (in), SPO (out), WCLK (in), WE (in)

## RAM32X1S
designator U?
32-Deep by 1-Wide Static Synchronous RAM; FPGAVendor: Xilinx; FirstPublished: 17-Dec-2009; Publisher: Altium Limited; HelpURL: http://www.xilinx.com/support/documentation/sw_manuals/xilinx11/virtex6_scm.pdf
pins: A0 (in), A1 (in), A2 (in), A3 (in), A4 (in), D (in), O (out), WCLK (in), WE (in)

## RAM32X1S_1
designator U?
32-Deep by 1-Wide Static Synchronous RAM with Negative-Edge Clock; FPGAVendor: Xilinx; FirstPublished: 17-Dec-2009; Publisher: Altium Limited; HelpURL: http://www.xilinx.com/support/documentation/sw_manuals/xilinx11/virtex6_scm.pdf
pins: A0 (in), A1 (in), A2 (in), A3 (in), A4 (in), D (in), O (out), WCLK (in), WE (in)

## RAM32X2S
designator U?
32-Deep by 2-Wide Static Synchronous RAM; FPGAVendor: Xilinx; FirstPublished: 17-Dec-2009; Publisher: Altium Limited; HelpURL: http://www.xilinx.com/support/documentation/sw_manuals/xilinx11/virtex6_scm.pdf
pins: A0 (in), A1 (in), A2 (in), A3 (in), A4 (in), D0 (in), D1 (in), O0 (out), O1 (out), WCLK (in), WE (in)

## RAM32X4S
designator U?
32-Deep by 4-Wide Static Synchronous RAM; FPGAVendor: Xilinx; FirstPublished: 17-Dec-2009; Publisher: Altium Limited; HelpURL: http://www.xilinx.com/support/documentation/sw_manuals/xilinx11/virtex6_scm.pdf
pins: A0 (in), A1 (in), A2 (in), A3 (in), A4 (in), D0 (in), D1 (in), D2 (in), D3 (in), O0 (out), O1 (out), O2 (out), O3 (out), WCLK (in), WE (in)

## RAM32X8S
designator U?
32-Deep by 8-Wide Static Synchronous RAM; FPGAVendor: Xilinx; FirstPublished: 17-Dec-2009; Publisher: Altium Limited; HelpURL: http://www.xilinx.com/support/documentation/sw_manuals/xilinx11/virtex6_scm.pdf
pins: A0 (in), A1 (in), A2 (in), A3 (in), A4 (in), D[7..0] (in), O[7..0] (out), WCLK (in), WE (in)

## RAM64M
designator U?
64-Deep by 4-bit Wide Multi Port Random Access Memory (Select RAM); FPGAVendor: Xilinx; FirstPublished: 17-Dec-2009; Publisher: Altium Limited; HelpURL: http://www.xilinx.com/support/documentation/sw_manuals/xilinx11/virtex6_scm.pdf
pins: ADDRA[5.0] (in), ADDRB[5.0] (in), ADDRC[5.0] (in), ADDRD[5.0] (in), DIA (in), DIB (in), DIC (in), DID (in), DOA (out), DOB (out), DOC (out), DOD (out), WCLK (in), WE (in)

## RAM64X1D
designator U?
64-Deep by 1-Wide Dual Port Static Synchronous RAM; FPGAVendor: Xilinx; FirstPublished: 17-Dec-2009; Publisher: Altium Limited; HelpURL: http://www.xilinx.com/support/documentation/sw_manuals/xilinx11/virtex6_scm.pdf
pins: A0 (in), A1 (in), A2 (in), A3 (in), A4 (in), A5 (in), D (in), DPO (out), DPRA0 (in), DPRA1 (in), DPRA2 (in), DPRA3 (in), DPRA4 (in), DPRA5 (in), SPO (out), WCLK (in), WE (in)

## RAM64X1S
designator U?
64-Deep by 1-Wide Static Synchronous RAM; FPGAVendor: Xilinx; FirstPublished: 17-Dec-2009; Publisher: Altium Limited; HelpURL: http://www.xilinx.com/support/documentation/sw_manuals/xilinx11/virtex6_scm.pdf
pins: A0 (in), A1 (in), A2 (in), A3 (in), A4 (in), A5 (in), D (in), O (out), WCLK (in), WE (in)

## RAM64X1S_1
designator U?
64-Deep by 1-Wide Static Synchronous RAM with Negative-Edge Clock; FPGAVendor: Xilinx; FirstPublished: 17-Dec-2009; Publisher: Altium Limited; HelpURL: http://www.xilinx.com/support/documentation/sw_manuals/xilinx11/virtex6_scm.pdf
pins: A0 (in), A1 (in), A2 (in), A3 (in), A4 (in), A5 (in), D (in), O (out), WCLK (in), WE (in)

## RAM64X2S
designator U?
64-Deep by 2-Wide Static Synchronous RAM; FPGAVendor: Xilinx; FirstPublished: 17-Dec-2009; Publisher: Altium Limited; HelpURL: http://www.xilinx.com/support/documentation/sw_manuals/xilinx11/virtex6_scm.pdf
pins: A0 (in), A1 (in), A2 (in), A3 (in), A4 (in), A5 (in), D0 (in), D1 (in), O0 (out), O1 (out), WCLK (in), WE (in)

## RAM128X1D
designator U?
128-Deep by 1-Wide Dual Port Random Access Memory (Select RAM); FPGAVendor: Xilinx; FirstPublished: 17-Dec-2009; Publisher: Altium Limited; HelpURL: http://www.xilinx.com/support/documentation/sw_manuals/xilinx11/virtex6_scm.pdf
pins: A[6..0] (in), D (in), DPO (out), DPRA[6..0] (in), SPO (out), WCLK (in), WE (in)

## RAM128X1S
designator U?
128-Deep by 1-Wide Static Synchronous RAM; FPGAVendor: Xilinx; FirstPublished: 17-Dec-2009; Publisher: Altium Limited; HelpURL: http://www.xilinx.com/support/documentation/sw_manuals/xilinx11/virtex6_scm.pdf
pins: A0 (in), A1 (in), A2 (in), A3 (in), A4 (in), A5 (in), A6 (in), D (in), O (out), WCLK (in), WE (in)

## RAM256X1S
designator U?
256-Deep by 1-Wide Random Access Memory (Select RAM); FPGAVendor: Xilinx; FirstPublished: 17-Dec-2009; Publisher: Altium Limited; HelpURL: http://www.xilinx.com/support/documentation/sw_manuals/xilinx11/virtex6_scm.pdf
pins: A[7..0] (in), D (in), O (out), WCLK (in), WE (in)

## RAMB18E1
designator U?
FPGAVendor: Xilinx; FirstPublished: 9-Jan-2010; Publisher: Altium Limited; HelpURL: http://www.xilinx.com/support/documentation/sw_manuals/xilinx11/virtex6_scm.pdf
pins: ADDRARDADDR[13..0] (in), ADDRBWRADDR[13..0] (in), CLKARDCLK (in), CLKBWRCLK (in), DIADI[15..0] (in), DIBDI[15..0] (in), DIPADIP[1..0] (in), DIPBDIP[1..0] (in), DOADO[15..0] (out), DOBDO[15..0] (out), DOPADOP[1..0] (out), DOPBDOP[1..0] (out), ENARDEN (in), ENBWREN (in), REGCEAREGCE (in), REGCEB (in), RSTRAMARSTRAM (in), RSTRAMB (in), RSTREGARSTREG (in), RSTREGB (in), WEA[1..0] (in), WEBWE[3..0] (in)

## RAMB36E1
designator U?
FPGAVendor: Xilinx; FirstPublished: 9-Jan-2010; Publisher: Altium Limited; HelpURL: http://www.xilinx.com/support/documentation/sw_manuals/xilinx11/virtex6_scm.pdf
pins: ADDRA[15..0] (in), ADDRB[15..0] (in), CASCADEINA (in), CASCADEINB (in), CASCADEOUTA (out), CASCADEOUTB (out), CLKA (in), CLKB (in), DBITERR (out), DIA[63..0] (in), DIB[63..0] (in), DIPA[7..0] (in), DIPB[7..0] (in), DOA[63..0] (out), DOB[63..0] (out), DOPA[7..0] (out), DOPB[7..0] (out), ECCPARITY[7..0] (out), ENA (in), ENB (in), INJECTDBITERR (in), INJECTSBITERR (in), RDADDRECC[8..0] (out), REGCEA (in), REGCEB (in), RSTRAMA (in), RSTRAMB (in), RSTREGA (in), RSTREGB (in), SBITERR (out), WEA[7..0] (in), WEB[7..0] (in)

## ROM16X1
designator U?
16-Deep by 1-Wide ROM; FPGAVendor: Xilinx; FirstPublished: 17-Dec-2009; Publisher: Altium Limited; HelpURL: http://www.xilinx.com/support/documentation/sw_manuals/xilinx11/virtex6_scm.pdf
pins: A0 (in), A1 (in), A2 (in), A3 (in), O (out)

## ROM32X1
designator U?
32-Deep by 1-Wide ROM; FPGAVendor: Xilinx; FirstPublished: 17-Dec-2009; Publisher: Altium Limited; HelpURL: http://www.xilinx.com/support/documentation/sw_manuals/xilinx11/virtex6_scm.pdf
pins: A0 (in), A1 (in), A2 (in), A3 (in), A4 (in), O (out)

## ROM64X1
designator U?
64-Deep by 1-Wide ROM; FPGAVendor: Xilinx; FirstPublished: 17-Dec-2009; Publisher: Altium Limited; HelpURL: http://www.xilinx.com/support/documentation/sw_manuals/xilinx11/virtex6_scm.pdf
pins: A0 (in), A1 (in), A2 (in), A3 (in), A4 (in), A5 (in), O (out)

## ROM128X1
designator U?
128-Deep by 1-Wide ROM; FPGAVendor: Xilinx; FirstPublished: 17-Dec-2009; Publisher: Altium Limited; HelpURL: http://www.xilinx.com/support/documentation/sw_manuals/xilinx11/virtex6_scm.pdf
pins: A0 (in), A1 (in), A2 (in), A3 (in), A4 (in), A5 (in), A6 (in), O (out)

## ROM256X1
designator U?
256-Deep by 1-Wide ROM; FPGAVendor: Xilinx; FirstPublished: 17-Dec-2009; Publisher: Altium Limited; HelpURL: http://www.xilinx.com/support/documentation/sw_manuals/xilinx11/virtex6_scm.pdf
pins: A0 (in), A1 (in), A2 (in), A3 (in), A4 (in), A5 (in), A6 (in), A7 (in), O (out)

## SOP3
designator U?
3-Input Sum-of-Products; FPGAVendor: Xilinx; FirstPublished: 17-Dec-2009; Publisher: Altium Limited; HelpURL: http://www.xilinx.com/support/documentation/sw_manuals/xilinx11/virtex6_scm.pdf
pins: I0 (in), I1 (in), I2 (in), O (out)

## SOP3B1A
designator U?
3-Input Sum-of-Products with One AND Input Inverted; FPGAVendor: Xilinx; FirstPublished: 17-Dec-2009; Publisher: Altium Limited; HelpURL: http://www.xilinx.com/support/documentation/sw_manuals/xilinx11/virtex6_scm.pdf
pins: I0 (in), I1 (in), I2 (in), O (out)

## SOP3B1B
designator U?
3-Input Sum-of-Products with One OR Input Inverted; FPGAVendor: Xilinx; FirstPublished: 17-Dec-2009; Publisher: Altium Limited; HelpURL: http://www.xilinx.com/support/documentation/sw_manuals/xilinx11/virtex6_scm.pdf
pins: I0 (in), I1 (in), I2 (in), O (out)

## SOP3B2A
designator U?
3-Input Sum-of-Products with Two AND Inputs Inverted; FPGAVendor: Xilinx; FirstPublished: 17-Dec-2009; Publisher: Altium Limited; HelpURL: http://www.xilinx.com/support/documentation/sw_manuals/xilinx11/virtex6_scm.pdf
pins: I0 (in), I1 (in), I2 (in), O (out)

## SOP3B2B
designator U?
3-Input Sum-of-Products with One OR and One AND Input Inverted; FPGAVendor: Xilinx; FirstPublished: 17-Dec-2009; Publisher: Altium Limited; HelpURL: http://www.xilinx.com/support/documentation/sw_manuals/xilinx11/virtex6_scm.pdf
pins: I0 (in), I1 (in), I2 (in), O (out)

## SOP3B3
designator U?
3-Input Sum-of-Products with All Inputs Inverted; FPGAVendor: Xilinx; FirstPublished: 17-Dec-2009; Publisher: Altium Limited; HelpURL: http://www.xilinx.com/support/documentation/sw_manuals/xilinx11/virtex6_scm.pdf
pins: I0 (in), I1 (in), I2 (in), O (out)

## SOP4
designator U?
4-Input Sum-of-Products; FPGAVendor: Xilinx; FirstPublished: 17-Dec-2009; Publisher: Altium Limited; HelpURL: http://www.xilinx.com/support/documentation/sw_manuals/xilinx11/virtex6_scm.pdf
pins: I0 (in), I1 (in), I2 (in), I3 (in), O (out)

## SOP4B1
designator U?
4-Input Sum-of-Products with One AND Input Inverted; FPGAVendor: Xilinx; FirstPublished: 17-Dec-2009; Publisher: Altium Limited; HelpURL: http://www.xilinx.com/support/documentation/sw_manuals/xilinx11/virtex6_scm.pdf
pins: I0 (in), I1 (in), I2 (in), I3 (in), O (out)

## SOP4B2A
designator U?
4-Input Sum-of-Products with Both Inputs on One AND Gate Inverted; FPGAVendor: Xilinx; FirstPublished: 17-Dec-2009; Publisher: Altium Limited; HelpURL: http://www.xilinx.com/support/documentation/sw_manuals/xilinx11/virtex6_scm.pdf
pins: I0 (in), I1 (in), I2 (in), I3 (in), O (out)

## SOP4B2B
designator U?
4-Input Sum-of-Products with One AND Input on Each AND Gate Inverted; FPGAVendor: Xilinx; FirstPublished: 17-Dec-2009; Publisher: Altium Limited; HelpURL: http://www.xilinx.com/support/documentation/sw_manuals/xilinx11/virtex6_scm.pdf
pins: I0 (in), I1 (in), I2 (in), I3 (in), O (out)

## SOP4B3
designator U?
4-Input Sum-of-Products with Three Inputs Inverted; FPGAVendor: Xilinx; FirstPublished: 17-Dec-2009; Publisher: Altium Limited; HelpURL: http://www.xilinx.com/support/documentation/sw_manuals/xilinx11/virtex6_scm.pdf
pins: I0 (in), I1 (in), I2 (in), I3 (in), O (out)

## SOP4B4
designator U?
4-Input Sum-of-Products with All Inputs Inverted; FPGAVendor: Xilinx; FirstPublished: 17-Dec-2009; Publisher: Altium Limited; HelpURL: http://www.xilinx.com/support/documentation/sw_manuals/xilinx11/virtex6_scm.pdf
pins: I0 (in), I1 (in), I2 (in), I3 (in), O (out)

## SR4CE
designator U?
4-Bit Serial-In Parallel-Out Shift Register with Clock Enable and Asynchronous Clear; FPGAVendor: Xilinx; FirstPublished: 17-Dec-2009; Publisher: Altium Limited; HelpURL: http://www.xilinx.com/support/documentation/sw_manuals/xilinx11/virtex6_scm.pdf
pins: C (in), CE (in), CLR (in), Q0 (out), Q1 (out), Q2 (out), Q3 (out), SLI (in)

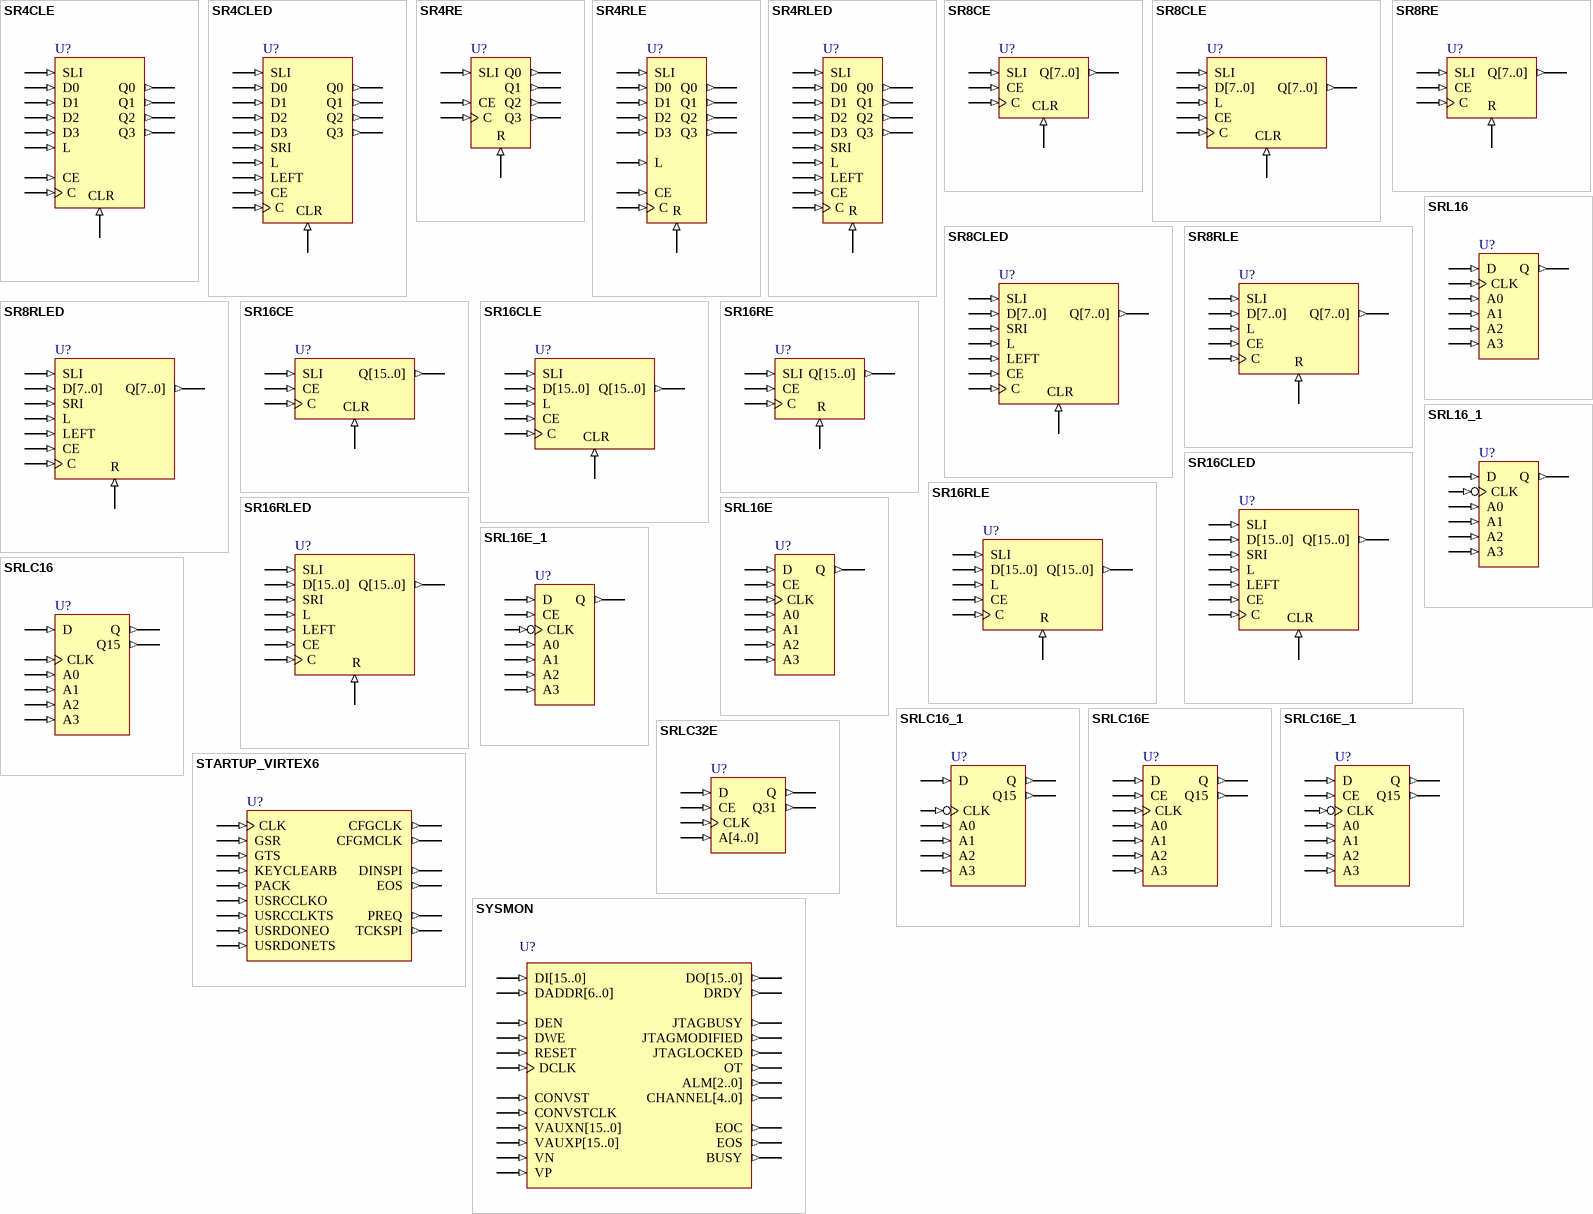
[diagram p12: symbols SR4CLE to SYSMON]

## SR4CLE
designator U?
4-Bit Loadable Serial/Parallel-In Parallel-Out Shift Register with Clock Enable and Asynchronous Clear; FPGAVendor: Xilinx; FirstPublished: 17-Dec-2009; Publisher: Altium Limited; HelpURL: http://www.xilinx.com/support/documentation/sw_manuals/xilinx11/virtex6_scm.pdf
pins: C (in), CE (in), CLR (in), D0 (in), D1 (in), D2 (in), D3 (in), L (in), Q0 (out), Q1 (out), Q2 (out), Q3 (out), SLI (in)

## SR4CLED
designator U?
4-Bit Shift Register with Clock Enable and Asynchronous Clear; FPGAVendor: Xilinx; FirstPublished: 17-Dec-2009; Publisher: Altium Limited; HelpURL: http://www.xilinx.com/support/documentation/sw_manuals/xilinx11/virtex6_scm.pdf
pins: C (in), CE (in), CLR (in), D0 (in), D1 (in), D2 (in), D3 (in), L (in), LEFT (in), Q0 (out), Q1 (out), Q2 (out), Q3 (out), SLI (in), SRI (in)

## SR4RE
designator U?
4-Bit Serial-In Parallel-Out Shift Register with Clock Enable and Synchronous Reset; FPGAVendor: Xilinx; FirstPublished: 17-Dec-2009; Publisher: Altium Limited; HelpURL: http://www.xilinx.com/support/documentation/sw_manuals/xilinx11/virtex6_scm.pdf
pins: C (in), CE (in), Q0 (out), Q1 (out), Q2 (out), Q3 (out), R (in), SLI (in)

## SR4RLE
designator U?
4-Bit Loadable Serial/Parallel-In Parallel-Out Shift Register with Clock Enable and Synchronous Reset; FPGAVendor: Xilinx; FirstPublished: 17-Dec-2009; Publisher: Altium Limited; HelpURL: http://www.xilinx.com/support/documentation/sw_manuals/xilinx11/virtex6_scm.pdf
pins: C (in), CE (in), D0 (in), D1 (in), D2 (in), D3 (in), L (in), Q0 (out), Q1 (out), Q2 (out), Q3 (out), R (in), SLI (in)

## SR4RLED
designator U?
4-Bit Shift Register with Clock Enable and Synchronous Reset; FPGAVendor: Xilinx; FirstPublished: 17-Dec-2009; Publisher: Altium Limited; HelpURL: http://www.xilinx.com/support/documentation/sw_manuals/xilinx11/virtex6_scm.pdf
pins: C (in), CE (in), D0 (in), D1 (in), D2 (in), D3 (in), L (in), LEFT (in), Q0 (out), Q1 (out), Q2 (out), Q3 (out), R (in), SLI (in), SRI (in)

## SR8CE
designator U?
8-Bit Serial-In Parallel-Out Shift Register with Clock Enable and Asynchronous Clear; FPGAVendor: Xilinx; FirstPublished: 17-Dec-2009; Publisher: Altium Limited; HelpURL: http://www.xilinx.com/support/documentation/sw_manuals/xilinx11/virtex6_scm.pdf
pins: C (in), CE (in), CLR (in), Q[7..0] (out), SLI (in)

## SR8CLE
designator U?
8-Bit Loadable Serial/Parallel-In Parallel-Out Shift Register with Clock Enable and Asynchronous Clear; FPGAVendor: Xilinx; FirstPublished: 17-Dec-2009; Publisher: Altium Limited; HelpURL: http://www.xilinx.com/support/documentation/sw_manuals/xilinx11/virtex6_scm.pdf
pins: C (in), CE (in), CLR (in), D[7..0] (in), L (in), Q[7..0] (out), SLI (in)

## SR8CLED
designator U?
8-Bit Shift Register with Clock Enable and Asynchronous Clear; FPGAVendor: Xilinx; FirstPublished: 17-Dec-2009; Publisher: Altium Limited; HelpURL: http://www.xilinx.com/support/documentation/sw_manuals/xilinx11/virtex6_scm.pdf
pins: C (in), CE (in), CLR (in), D[7..0] (in), L (in), LEFT (in), Q[7..0] (out), SLI (in), SRI (in)

## SR8RE
designator U?
8-Bit Serial-In Parallel-Out Shift Register with Clock Enable and Synchronous Reset; FPGAVendor: Xilinx; FirstPublished: 17-Dec-2009; Publisher: Altium Limited; HelpURL: http://www.xilinx.com/support/documentation/sw_manuals/xilinx11/virtex6_scm.pdf
pins: C (in), CE (in), Q[7..0] (out), R (in), SLI (in)

## SR8RLE
designator U?
8-Bit Loadable Serial/Parallel-In Parallel-Out Shift Register with Clock Enable and Synchronous Reset; FPGAVendor: Xilinx; FirstPublished: 17-Dec-2009; Publisher: Altium Limited; HelpURL: http://www.xilinx.com/support/documentation/sw_manuals/xilinx11/virtex6_scm.pdf
pins: C (in), CE (in), D[7..0] (in), L (in), Q[7..0] (out), R (in), SLI (in)

## SR8RLED
designator U?
8-Bit Shift Register with Clock Enable and Synchronous Reset; FPGAVendor: Xilinx; FirstPublished: 17-Dec-2009; Publisher: Altium Limited; HelpURL: http://www.xilinx.com/support/documentation/sw_manuals/xilinx11/virtex6_scm.pdf
pins: C (in), CE (in), D[7..0] (in), L (in), LEFT (in), Q[7..0] (out), R (in), SLI (in), SRI (in)

## SR16CE
designator U?
16-Bit Serial-In Parallel-Out Shift Register with Clock Enable and Asynchronous Clear; FPGAVendor: Xilinx; FirstPublished: 17-Dec-2009; Publisher: Altium Limited; HelpURL: http://www.xilinx.com/support/documentation/sw_manuals/xilinx11/virtex6_scm.pdf
pins: C (in), CE (in), CLR (in), Q[15..0] (out), SLI (in)

## SR16CLE
designator U?
16-Bit Loadable Serial/Parallel-In Parallel-Out Shift Register with Clock Enable and Asynchronous Clear; FPGAVendor: Xilinx; FirstPublished: 17-Dec-2009; Publisher: Altium Limited; HelpURL: http://www.xilinx.com/support/documentation/sw_manuals/xilinx11/virtex6_scm.pdf
pins: C (in), CE (in), CLR (in), D[15..0] (in), L (in), Q[15..0] (out), SLI (in)

## SR16CLED
designator U?
16-Bit Shift Register with Clock Enable and Asynchronous Clear; FPGAVendor: Xilinx; FirstPublished: 17-Dec-2009; Publisher: Altium Limited; HelpURL: http://www.xilinx.com/support/documentation/sw_manuals/xilinx11/virtex6_scm.pdf
pins: C (in), CE (in), CLR (in), D[15..0] (in), L (in), LEFT (in), Q[15..0] (out), SLI (in), SRI (in)

## SR16RE
designator U?
16-Bit Serial-In Parallel-Out Shift Register with Clock Enable and Synchronous Reset; FPGAVendor: Xilinx; FirstPublished: 17-Dec-2009; Publisher: Altium Limited; HelpURL: http://www.xilinx.com/support/documentation/sw_manuals/xilinx11/virtex6_scm.pdf
pins: C (in), CE (in), Q[15..0] (out), R (in), SLI (in)

## SR16RLE
designator U?
16-Bit Loadable Serial/Parallel-In Parallel-Out Shift Register with Clock Enable and Synchronous Reset; FPGAVendor: Xilinx; FirstPublished: 17-Dec-2009; Publisher: Altium Limited; HelpURL: http://www.xilinx.com/support/documentation/sw_manuals/xilinx11/virtex6_scm.pdf
pins: C (in), CE (in), D[15..0] (in), L (in), Q[15..0] (out), R (in), SLI (in)

## SR16RLED
designator U?
16-Bit Shift Register with Clock Enable and Synchronous Reset; FPGAVendor: Xilinx; FirstPublished: 17-Dec-2009; Publisher: Altium Limited; HelpURL: http://www.xilinx.com/support/documentation/sw_manuals/xilinx11/virtex6_scm.pdf
pins: C (in), CE (in), D[15..0] (in), L (in), LEFT (in), Q[15..0] (out), R (in), SLI (in), SRI (in)

## SRL16
designator U?
16-Bit Shift Register Look-Up-Table (LUT); FPGAVendor: Xilinx; FirstPublished: 17-Dec-2009; Publisher: Altium Limited; HelpURL: http://www.xilinx.com/support/documentation/sw_manuals/xilinx11/virtex6_scm.pdf
pins: A0 (in), A1 (in), A2 (in), A3 (in), CLK (in), D (in), Q (out)

## SRL16_1
designator U?
16-Bit Shift Register Look-Up-Table (LUT) with Negative-Clock Edge; FPGAVendor: Xilinx; FirstPublished: 17-Dec-2009; Publisher: Altium Limited; HelpURL: http://www.xilinx.com/support/documentation/sw_manuals/xilinx11/virtex6_scm.pdf
pins: A0 (in), A1 (in), A2 (in), A3 (in), CLK (in), D (in), Q (out)

## SRL16E
designator U?
16-Bit Shift Register Look-Up-Table (LUT) with Clock Enable; FPGAVendor: Xilinx; FirstPublished: 17-Dec-2009; Publisher: Altium Limited; HelpURL: http://www.xilinx.com/support/documentation/sw_manuals/xilinx11/virtex6_scm.pdf
pins: A0 (in), A1 (in), A2 (in), A3 (in), CE (in), CLK (in), D (in), Q (out)

## SRL16E_1
designator U?
16-Bit Shift Register Look-Up-Table (LUT) with Negative-Edge Clock and Clock Enable; FPGAVendor: Xilinx; FirstPublished: 17-Dec-2009; Publisher: Altium Limited; HelpURL: http://www.xilinx.com/support/documentation/sw_manuals/xilinx11/virtex6_scm.pdf
pins: A0 (in), A1 (in), A2 (in), A3 (in), CE (in), CLK (in), D (in), Q (out)

## SRLC16
designator U?
16-Bit Shift Register Look-Up-Table (LUT) with Carry; FPGAVendor: Xilinx; FirstPublished: 17-Dec-2009; Publisher: Altium Limited; HelpURL: http://www.xilinx.com/support/documentation/sw_manuals/xilinx11/virtex6_scm.pdf
pins: A0 (in), A1 (in), A2 (in), A3 (in), CLK (in), D (in), Q (out), Q15 (out)

## SRLC16_1
designator U?
16-Bit Shift Register Look-Up-Table (LUT) with Carry and Negative-Edge Clock; FPGAVendor: Xilinx; FirstPublished: 17-Dec-2009; Publisher: Altium Limited; HelpURL: http://www.xilinx.com/support/documentation/sw_manuals/xilinx11/virtex6_scm.pdf
pins: A0 (in), A1 (in), A2 (in), A3 (in), CLK (in), D (in), Q (out), Q15 (out)

## SRLC16E
designator U?
16-Bit Shift Register Look-Up-Table (LUT) with Carry and Clock Enable; FPGAVendor: Xilinx; FirstPublished: 17-Dec-2009; Publisher: Altium Limited; HelpURL: http://www.xilinx.com/support/documentation/sw_manuals/xilinx11/virtex6_scm.pdf
pins: A0 (in), A1 (in), A2 (in), A3 (in), CE (in), CLK (in), D (in), Q (out), Q15 (out)

## SRLC16E_1
designator U?
16-Bit Shift Register Look-Up-Table (LUT) with Carry, Negative-Edge Clock, and Clock Enable; FPGAVendor: Xilinx; FirstPublished: 17-Dec-2009; Publisher: Altium Limited; HelpURL: http://www.xilinx.com/support/documentation/sw_manuals/xilinx11/virtex6_scm.pdf
pins: A0 (in), A1 (in), A2 (in), A3 (in), CE (in), CLK (in), D (in), Q (out), Q15 (out)

## SRLC32E
designator U?
32 Clock Cycle, Variable Length Shift Register Look-Up Table (LUT) with Clock Enable; FPGAVendor: Xilinx; FirstPublished: 17-Dec-2009; Publisher: Altium Limited; HelpURL: http://www.xilinx.com/support/documentation/sw_manuals/xilinx11/virtex6_scm.pdf
pins: A[4..0] (in), CE (in), CLK (in), D (in), Q (out), Q31 (out)

## STARTUP_VIRTEX6
designator U?
FPGAVendor: Xilinx; FirstPublished: 9-Jan-2010; Publisher: Altium Limited; HelpURL: http://www.xilinx.com/support/documentation/sw_manuals/xilinx11/virtex6_scm.pdf
pins: CFGCLK (out), CFGMCLK (out), CLK (in), DINSPI (out), EOS (out), GSR (in), GTS (in), KEYCLEARB (in), PACK (in), PREQ (out), TCKSPI (out), USRCCLKO (in), USRCCLKTS (in), USRDONEO (in), USRDONETS (in)